# Altium schematic symbol library SCH - SENSOR - MOTION - INVENSENSE MPU-9250.SCHLIB: 1 symbol
Pins are listed as number, name and electrical type; pins without a type are passive.

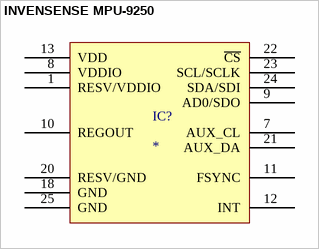
[diagram p0: symbol INVENSENSE MPU-9250]

## INVENSENSE MPU-9250
designator IC?
pins: 1 RESV/VDDIO, 7 AUX_CL, 8 VDDIO, 9 AD0/SDO, 10 REGOUT, 11 FSYNC, 12 INT, 13 VDD, 18 GND, 20 RESV/GND, 21 AUX_DA, 22 ~{CS}, 23 SCL/SCLK, 24 SDA/SDI, 25 GND